# Altium schematic symbol library 5-LED.SchLib: 16 symbols
Pins are listed as number, name and electrical type; pins without a type are passive.

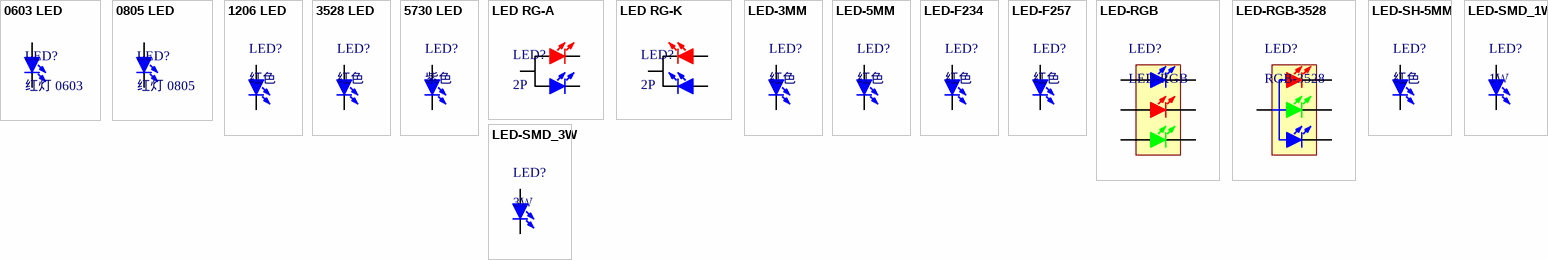
[diagram p0: symbols 0603 LED to LED-SMD_3W]

## 0603 LED
designator LED?, comment 红灯 0603
贴片LED; ComponentLink1Description: 供应商链接; ComponentLink1URL: http://www.szlcsc.com/product/details_2659.html; Package: 0603; Supplier: LC; SuppliersPartNumber: C2286
footprint 0603_LED
pins: 1 A, 2 K

## 0805 LED
designator LED?, comment 红灯 0805
贴片LED; ComponentLink1Description: 供应商链接; ComponentLink1URL: http://www.szlcsc.com/product/details_2668.html; Package: 0805; Supplier: LC; SuppliersPartNumber: C2295
footprint 0805_LED
pins: 1 A, 2 K

## 1206 LED
designator LED?, comment 红色
贴片LED; 编号: C99881; BOM名称: 贴片LED; URL: https://item.szlcsc.com/101095.html
footprint 1206_LED (绿色1206LED)
pins: 1 A, 2 K

## 3528 LED
designator LED?, comment 红色
贴片LED; 编号: C74350; BOM名称: 贴片LED; URL: https://item.szlcsc.com/75469.html
footprint LED 3528-2Pin (2脚，3528LED)
pins: 1 A, 2 K

## 5730 LED
designator LED?, comment 紫色
贴片LED; 版权归属: 源创客; BOM名称: 贴片LED; 学习资源: www.ooocke.com
footprint LED 5730-V (紫色5730LED)
pins: 1 A, 2 K

## LED RG-A
designator LED?, comment 2P
共阳双色LED; 版权归属: 源创客; BOM名称: 共阳双色LED; 学习资源: www.ooocke.com
footprint LED 3mm-2P (3mm双色LED)
pins: 1, 2, 3

## LED RG-K
designator LED?, comment 2P
共阴双色LED; 版权归属: 源创客; BOM名称: 共阴双色LED; 学习资源: www.ooocke.com
footprint LED 3mm-2P (3mm双色LED)
pins: 1, 2, 3

## LED-3MM
designator LED?, comment 红色
插件LED; 版权归属: 源创客; BOM名称: 插件LED; 学习资源: www.ooocke.com
footprint LED 3MM-B (蓝色3mm直插LED)
footprint LED 3MM-G (绿色3mm直插LED)
footprint LED 3MM-R (红色3mm直插LED)
footprint LED 3MM-Y (黄色3mm直插LED)
footprint LED 3MM-YC (橙色3mm直插LED)
pins: 1 A, 2 K

## LED-5MM
designator LED?, comment 红色
5mm插件LED; 版权归属: 源创客; BOM名称: 5mm插件LED; 学习资源: www.ooocke.com
footprint LED 5MM-B (蓝色5mm直插LED)
footprint LED 5MM-G (绿色5mm直插LED)
footprint LED 5MM-R (红色5mm直插LED)
footprint LED 5MM-Y (黄色5mm直插LED)
footprint LED 5MM-W (白色5mm直插LED)
footprint LED 5MM-YC (橙色5mm直插LED)
pins: 1 A, 2 K

## LED-F234
designator LED?, comment 红色
方形LED; 版权归属: 源创客; BOM名称: 方形LED; 学习资源: www.ooocke.com
footprint LED F234-W (透明色2mm*3mm*4mm(长*宽*高))
footprint LED F234-R (红色2mm*3mm*4mm(长*宽*高))
footprint LED F234-G (绿色2mm*3mm*4mm(长*宽*高))
footprint LED F234-B (蓝色2mm*3mm*4mm(长*宽*高))
footprint LED F234-Y (黄色2mm*3mm*4mm(长*宽*高))
pins: 1 A, 2 K

## LED-F257
designator LED?, comment 红色
方形LED; 版权归属: 源创客; BOM名称: 方形LED; 学习资源: www.ooocke.com
footprint LED F257-W (透明色2mm*5mm*7mm(长*宽*高))
footprint LED F257-R (红色2mm*5mm*7mm(长*宽*高))
footprint LED F257-G (绿色2mm*5mm*7mm(长*宽*高))
footprint LED F257-B (蓝色2mm*5mm*7mm(长*宽*高))
footprint LED F257-Y (黄色2mm*5mm*7mm(长*宽*高))
pins: 1 A, 2 K

## LED-RGB
designator LED?
三基色LED; 版权归属: 源创客; BOM名称: 三基色LED; 学习资源: www.ooocke.com
footprint LED 5050 (白色5050LED)
pins: 1 BULE_A, 2 RED_A, 3 GREEN_A, 4 GREEN_K, 5 RED_K, 6 BULE_K

## LED-RGB-3528
designator LED?, comment RGB-3528
三基色LED; 版权归属: 源创客; BOM名称: 三基色LED; 学习资源: www.ooocke.com
footprint LED 3528-4Pin (4脚，3528LED)
pins: 1 RED_K, 2 GREEN_K, 3 BULE_K, 4 A

## LED-SH-5MM
designator LED?, comment 红色
5mm草帽LED; 版权归属: 源创客; BOM名称: 5mm草帽LED; 学习资源: www.ooocke.com
footprint LED SH-5MM-W (白色5mm草帽，直插LED)
pins: 1 A, 2 K

## LED-SMD_1W
designator LED?, comment 1W
大功率LED; 版权归属: 源创客; BOM名称: 大功率LED; 学习资源: www.ooocke.com
footprint LED 1W/3W-W (白色，大功率LED)
footprint LED 1W/3W (大功率LED)
pins: 1 A, 2 K

## LED-SMD_3W
designator LED?, comment 3W
大功率LED; 版权归属: 源创客; BOM名称: 大功率LED; 学习资源: www.ooocke.com
footprint LED 1W/3W-W (白色，大功率LED)
footprint LED 1W/3W (大功率LED)
pins: 1 A, 2 K